# Altium footprint library CON 53398-0271.PcbLib: 1 footprints
Each footprint in its own frame and in the unit in brackets; x right, y up, seen from the top. Pads: shape width x height; smd on the part's side, far side on the other; paste and mask are expansions set on the pad; w line width, h text height; cw(c..) or ccw(c..) is an arc to the next point about the centre after c.
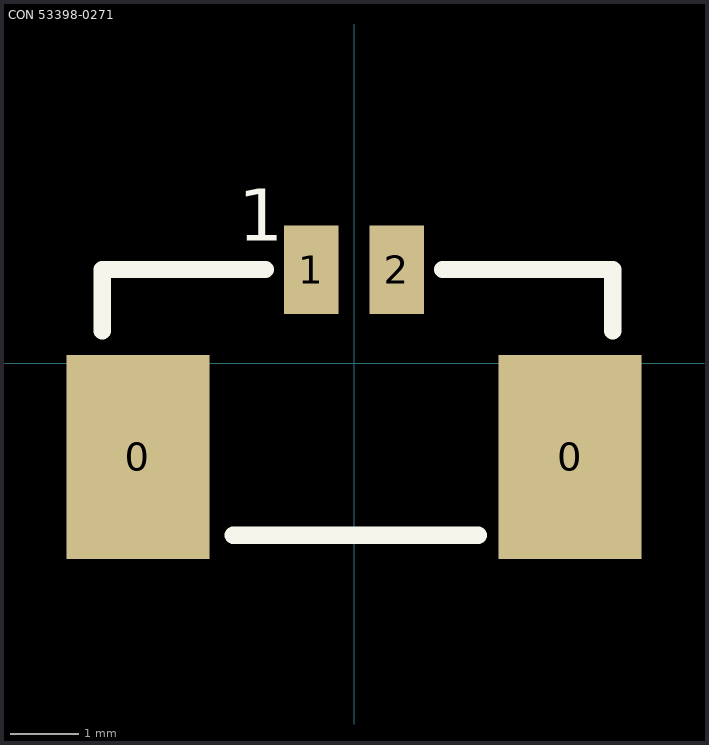
[diagram p0: the footprint, top view; thin cyan lines are the x and y axes]

## CON 53398-0271 [mm]
pads (4):
  rect 2.1x3 smd: 0(-3.175,-1.375) 0(3.175,-1.375)
  rect 0.8x1.3 smd: 1(-0.625,1.375) 2(0.625,1.375)
Top Overlay:
  lines w0.254: -3.7,0.475 -3.7,1.378 -1.3,1.378 ; -1.775,-2.525 1.825,-2.525 ; 1.3,1.378 3.8,1.378 3.8,0.475
  text "1" at -1.7,1.8 h0.76
3D body: height 4.72, standoff 0.02, extent -3.825,-2.507 3.825,1.693